# Altium footprint library VFLGA2x2x1-12L.PcbLib: 1 footprints
Each footprint in its own frame and in the unit in brackets; x right, y up, seen from the top. Pads: shape width x height; smd on the part's side, far side on the other; paste and mask are expansions set on the pad; w line width, h text height; cw(c..) or ccw(c..) is an arc to the next point about the centre after c.
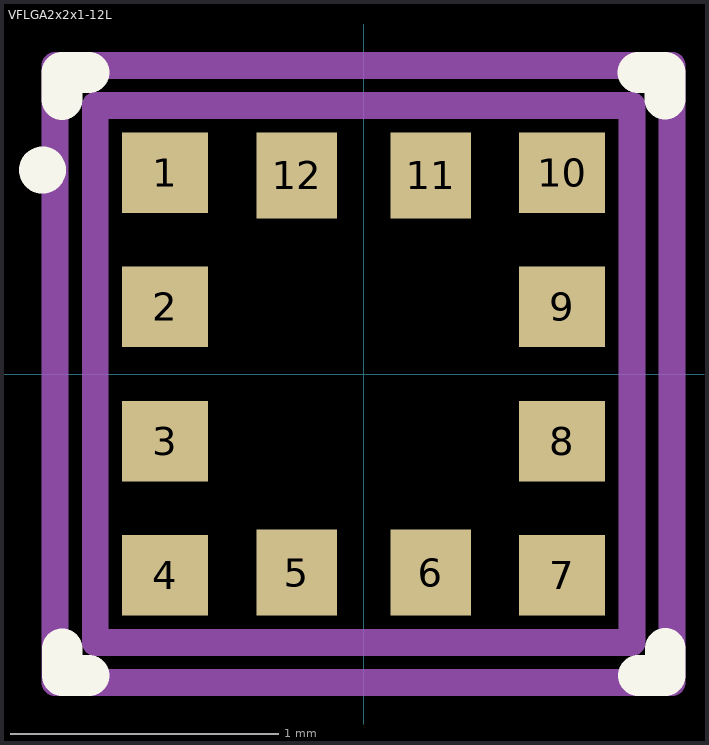
[diagram p0: the footprint, top view; thin cyan lines are the x and y axes]

## VFLGA2x2x1-12L [mm] "LCC, 12-Pins, Body 2.00x2.00mmx1.00mm, Pitch 0.50mm, IPC High Density"
height 1
pads (12):
  rect 0.32x0.3 smd: 1(-0.74,0.75) 2(-0.74,0.25) 3(-0.74,-0.25) 4(-0.74,-0.75) 7(0.74,-0.75) 8(0.74,-0.25) 9(0.74,0.25) 10(0.74,0.75)
  rect 0.3x0.32 smd: 5(-0.25,-0.74) 6(0.25,-0.74) 11(0.25,0.74) 12(-0.25,0.74)
Top Overlay:
  circle w0.125: c-1.196,0.76 r0.025
  lines w0.152: -1.123,1.023 -1.123,1.123 -1.023,1.123 ; -1.123,-1.024 -1.123,-1.124 -1.023,-1.124 ; 1.024,-1.123 1.124,-1.123 1.124,-1.023 ; 1.023,1.124 1.123,1.124 1.123,1.023
Mechanical 13:
  lines w0.1: -1,-1 1,-1 1,1 -1,1 -1,-1
Mechanical 15:
  lines w0.1: -1.15,-1.15 1.15,-1.15 ; -1.15,1.15 1.15,1.15 ; -1.15,-1.15 -1.15,1.15 ; 1.15,-1.15 1.15,1.15
3D body: height 0.78, standoff -0.1, extent -0.975,-0.975 0.975,0.975